# EAGLE library part 429427520910 (library Wurth_Elektronik_Electromechanic_Switch_rev16b)
10x10 mm washable THT right angled cross type Pitch 5.08 WS-ROTU <http://katalog.we-online.de/media/images/v2/Family_WS_RAT_10x10_THT_42942732091x_pf2.jpg> Details see: http://katalog.we-online.de/en/em/ROTU_10X10_WASHABLE_THT_RIGHT_ANGLED_CROSS_TYPE_PITCH_5_08 2015 (C) Würth Elektronik
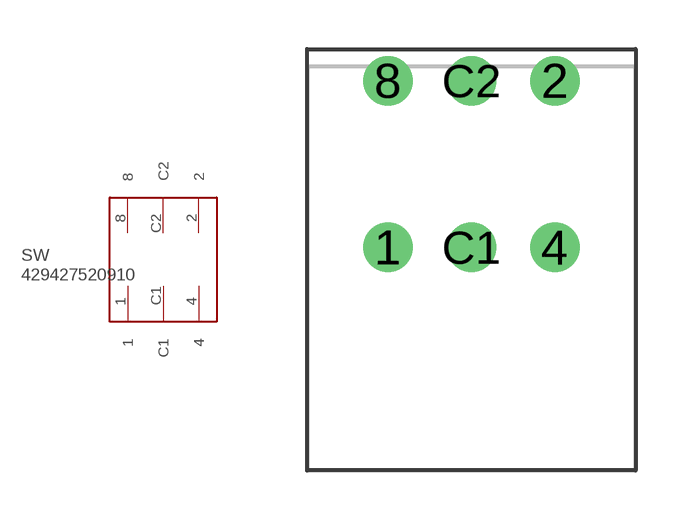
[diagram p136: symbol with the pads of 429427520910; footprint 429427520910]

Designator prefix SW

## 429427520910  [429427520910]
1  1
2  2
4  4
8  8
C1  C1
C2  C2

## Footprint 429427520910 (pad centres in mm)
WS-RCT, 10*10mm Rotary Switch, right angle type, THT, 10 position, 5,08mm, 6 pins, round Cross type, dark grey, real code
drill 1: 1 -2.54,-2.54; 2 2.54,2.54; 4 2.54,-2.54; 8 -2.54,2.54; C1 0,-2.54; C2 0,2.54